# EAGLE library part HEF4093B (library misc)
Quad 2-input NAND Schmitt trigger
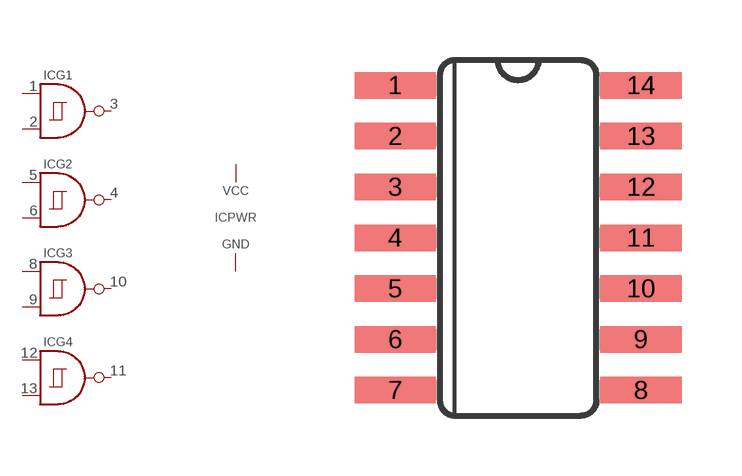
[diagram p55: symbol with the pads of SOIC14; footprint SOIC14]

Designator prefix IC; gates G1=HEF4093B_GATE PWR=4XXX_HEF4093B_5_1 G2=HEF4093B_GATE G3=HEF4093B_GATE G4=HEF4093B_GATE

## HEF4093B (MANF: Nexperia B.V.; MANF#: HEF4093BT,653)  [SOIC14]
1  G1:A  in
2  G1:B  in
3  G1:Y  out
4  G2:Y  out
5  G2:A  in
6  G2:B  in
7  PWR:GND  pwr
8  G3:A  in
9  G3:B  in
10  G3:Y  out
11  G4:Y  out
12  G4:A  in
13  G4:B  in
14  PWR:VCC  pwr

## Footprint SOIC14 (pad centres in mm)
3D model <http://grabcad.com/library/106x-soic-packages-small-outline-integrated-circuit-1/details?folder_id=13776991>
smd 2.032 x 0.66: 1 -3.073,3.82; 2 -3.073,2.55; 3 -3.073,1.28; 4 -3.073,0.01; 5 -3.073,-1.26; 6 -3.073,-2.53; 7 -3.073,-3.8; 8 3.073,-3.8; 9 3.073,-2.53; 10 3.073,-1.26; 11 3.073,0.01; 12 3.073,1.28; 13 3.073,2.55; 14 3.073,3.82